# Altium footprint library COMBICON MKDS - 3.5mm.PcbLib: 3 footprints
Each footprint in its own frame and in the unit in brackets; x right, y up, seen from the top. Pads: shape width x height; smd on the part's side, far side on the other; paste and mask are expansions set on the pad; w line width, h text height; cw(c..) or ccw(c..) is an arc to the next point about the centre after c.
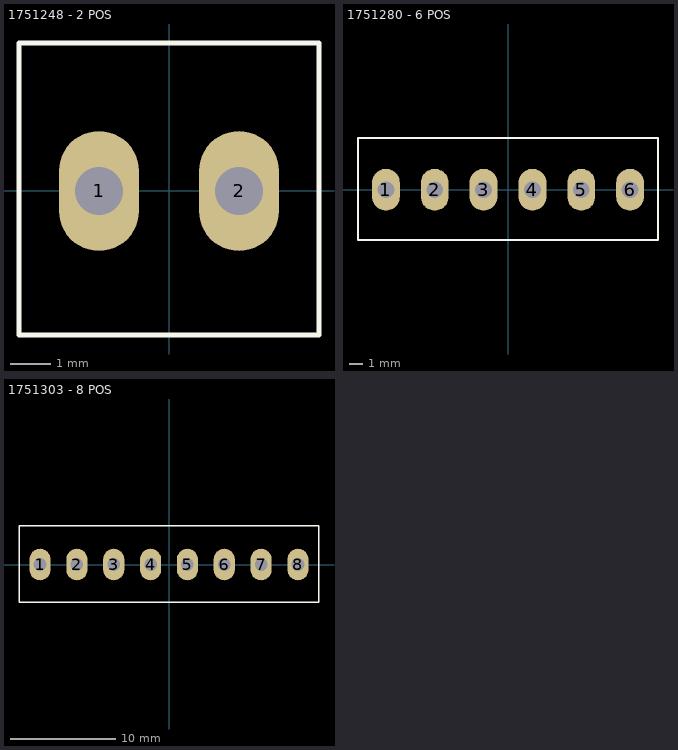
[diagram p0: the footprints below, top view; thin cyan lines are the x and y axes]

## 1751248 - 2 POS [mm]
pads (2):
  oval 2x3 hole 1.2: 1(-1.75,0) 2(1.75,0)
Top Overlay:
  lines w0.127: -3.75,-3.6 -3.75,3.7 3.75,3.7 3.75,-3.6 -3.75,-3.6
3D body "pxc_1751248_04_MKDS-1-2-3-5_3D.stp": height 8.51, standoff -3.49, extent -3.75,-3.6 3.75,3.7

## 1751280 - 6 POS [mm]
pads (6):
  oval 2x3 hole 1.2: 1(-8.75,0) 2(-5.25,0) 3(-1.75,0) 4(1.75,0) 5(5.25,0) 6(8.75,0)
Top Overlay:
  lines w0.127: -10.75,-3.6 -10.75,3.7 10.75,3.7 10.75,-3.6 -10.75,-3.6
3D body "pxc_1751280_04_MKDS-1-6-3-5_3D.stp": height 8.51, standoff -3.49, extent -10.75,-3.575 10.75,3.725

## 1751303 - 8 POS [mm]
pads (8):
  oval 2x3 hole 1.2: 1(-12.25,0) 2(-8.75,0) 3(-5.25,0) 4(-1.75,0) 5(1.75,0) 6(5.25,0) 7(8.75,0) 8(12.25,0)
Top Overlay:
  lines w0.127: -14.25,-3.6 14.25,-3.6 14.25,3.7 -14.25,3.7 -14.25,-3.6
3D body "pxc_1751303_04_MKDS-1-8-3-5_3D.stp": height 8.51, standoff -3.49, extent -14.3,-3.6 14.2,3.7